# Altium schematic symbol library THD Crystals.SchLib: 4 symbols
Pins are listed as number, name and electrical type; pins without a type are passive.

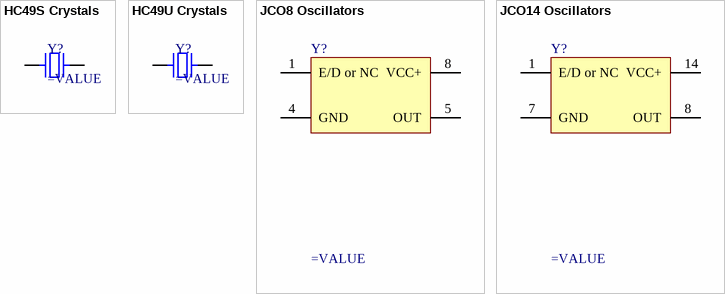
[diagram p0: symbols HC49S Crystals to JCO14 Oscillators]

## HC49S Crystals
designator Y?
HC49S TH Crystals
footprint HC49S
pins: 1, 2

## HC49U Crystals
designator Y?
HC49U TH Crystals
footprint HC49U
pins: 1, 2

## JCO8 Oscillators
designator Y?
JCO8 Oscillators
footprint JCO8 (DIP; 8 Leads; Row Spacing 7.62 mm; Pitch 2.54 mm)
pins: 1 E/D or NC, 4 GND, 5 OUT, 8 VCC+

## JCO14 Oscillators
designator Y?
JCO14 Oscillators
footprint JCO14 (DIP, Molded; 16 Leads; Row Spacing 7.62 mm; Pitch 2.54 mm)
pins: 1 E/D or NC, 7 GND, 8 OUT, 14 VCC+